# Altium footprint library Mounting holes.PcbLib: 26 footprints (part 1 of 2)
Each footprint in its own frame and in the unit in brackets; x right, y up, seen from the top. Pads: shape width x height; smd on the part's side, far side on the other; paste and mask are expansions set on the pad; w line width, h text height; cw(c..) or ccw(c..) is an arc to the next point about the centre after c.
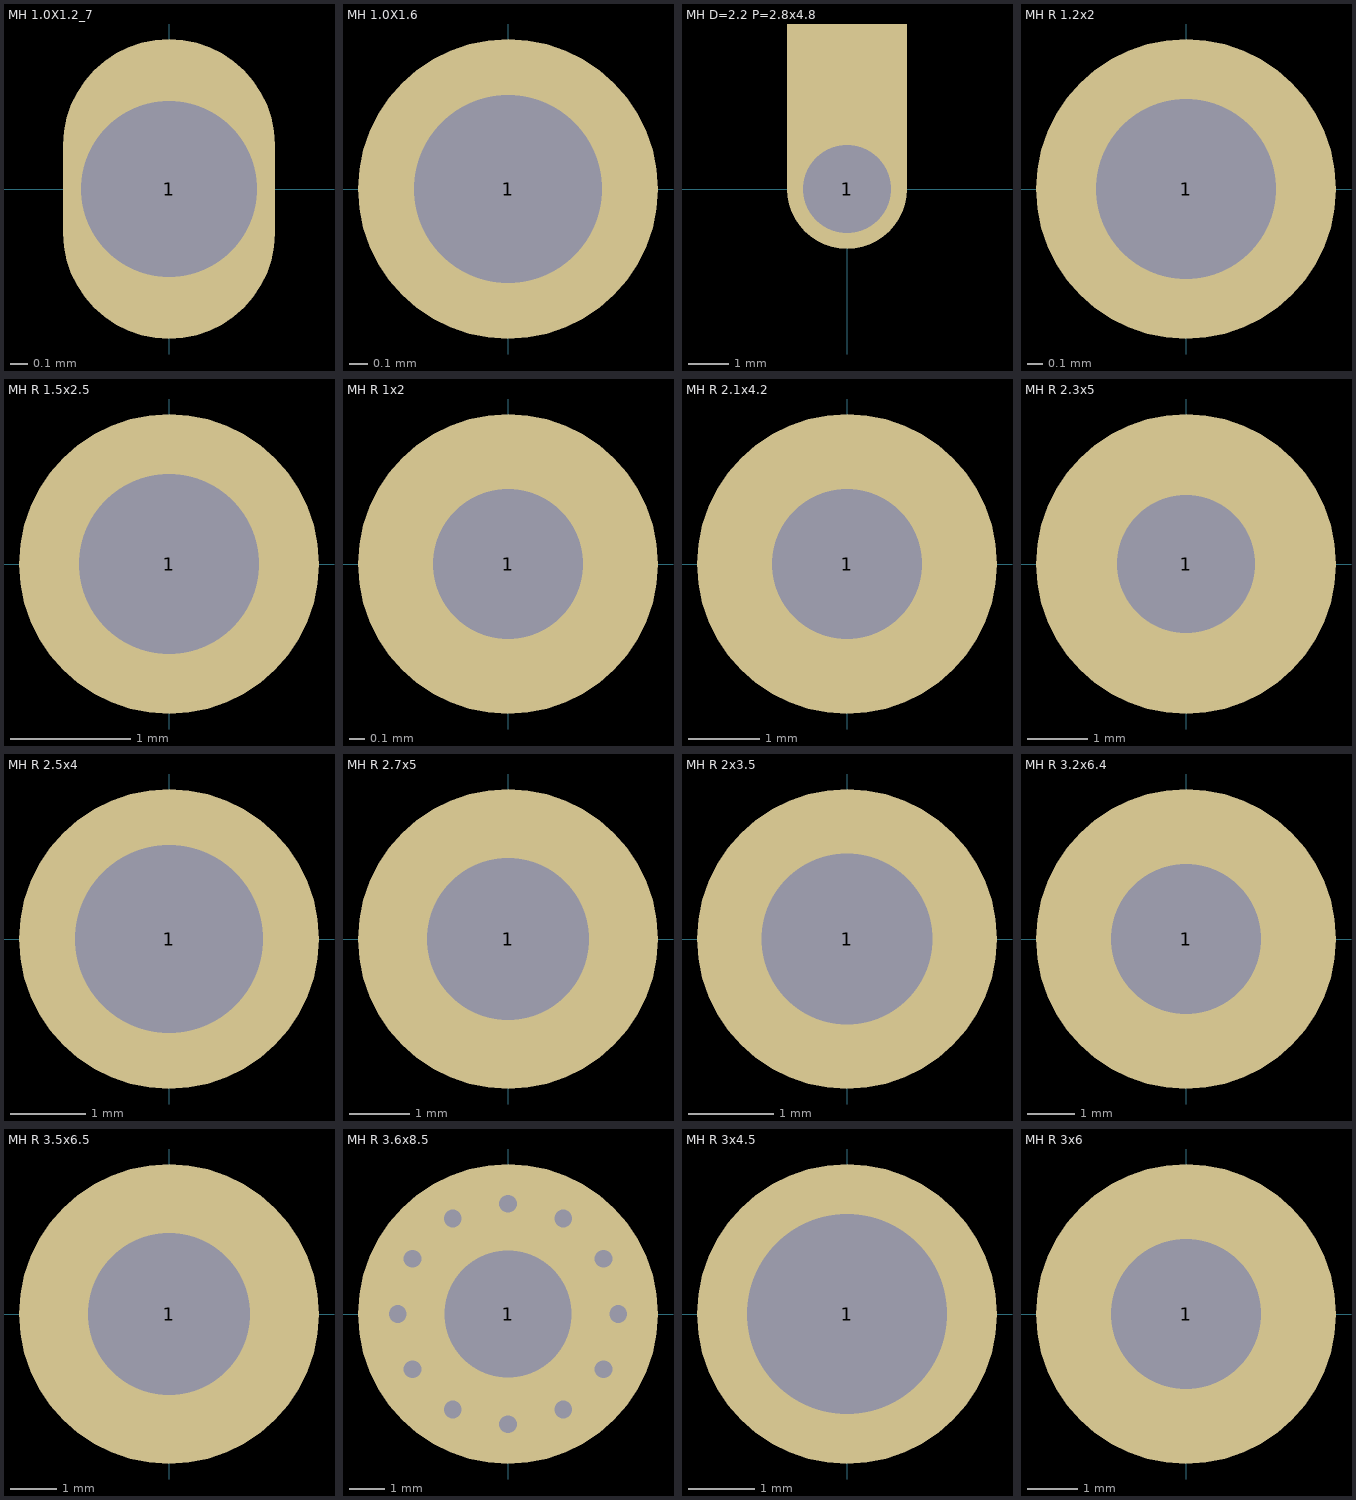
[diagram p0: the footprints below, top view; thin cyan lines are the x and y axes]

## MH 1.0X1.2_7 [mm] "MH 1.0X1.2"
pads (1):
  oval 1.2x1.7 hole 1: 1(0,0)

## MH 1.0X1.6 [mm] "MH 1.0X1.6"
pads (1):
  round 1.6 hole 1: 1(0,0)

## MH D=2.2 P=2.8x4.8 [mm] "Hole for wire soldering, hole size 2.2mm, pad 2.8x4.8mm"
pads (1):
  oval 3x7.5 hole 2.2 unplated copper offset 0,2.25: 1(0,0)

## MH R 1.2x2 [mm] "MH R 1.2x2"
pads (1):
  round 2 hole 1.2: 1(0,0)

## MH R 1.5x2.5 [mm] "MH R 1.5x2.5"
pads (1):
  round 2.5 hole 1.5: 1(0,0)

## MH R 1x2 [mm] "MH R 1x2"
pads (1):
  round 2 hole 1: 1(0,0)

## MH R 2.1x4.2 [mm] "MH R 2.1x4.2"
pads (1):
  round 4.2 hole 2.1: 1(0,0)

## MH R 2.3x5 [mm] "MH R 2.3x5"
pads (1):
  round 5 hole 2.3: 1(0,0)

## MH R 2.5x4 [mm] "MH R 2.5x4"
pads (1):
  round 4 hole 2.5: 1(0,0)

## MH R 2.7x5 [mm] "Hole 2.7mm, Pad 5mm"
pads (1):
  round 5 hole 2.7: 1(0,0)

## MH R 2x3.5 [mm] "MH R 2x3.5"
pads (1):
  round 3.5 hole 2: 1(0,0)

## MH R 3.2x6.4 [mm] "MH R 3.2x6.4"
pads (1):
  round 6.4 hole 3.2: 1(0,0)

## MH R 3.5x6.5 [mm] "MH R 3.5x6.5"
pads (1):
  round 6.5 hole 3.5 mask+0.5: 1(0,0)

## MH R 3.6x8.5 [mm] "MH R 3.6x8.5"
pads (1):
  round 8.5 hole 3.6: 1(0,0)
via 1.562,-2.706 diameter 1 hole 0.5
via -1.562,-2.706 diameter 1 hole 0.5
via -1.562,2.706 diameter 1 hole 0.5
via 1.562,2.706 diameter 1 hole 0.5
via 3.125,0 diameter 1 hole 0.5
via -3.125,0 diameter 1 hole 0.5
via 0,3.125 diameter 1 hole 0.5
via 0,-3.125 diameter 1 hole 0.5
via 2.706,1.562 diameter 1 hole 0.5
via 2.706,-1.562 diameter 1 hole 0.5
via -2.706,1.562 diameter 1 hole 0.5
via -2.706,-1.562 diameter 1 hole 0.5

## MH R 3x4.5 [mm] "MH R 3x4.5"
pads (1):
  round 4.5 hole 3: 1(0,0)

## MH R 3x6 [mm] "MH R 3x6"
pads (1):
  round 6 hole 3: 1(0,0)